# EAGLE library part RVSCHWARZENEGGER_BMS_PCB (library RVschwarzenegger2)
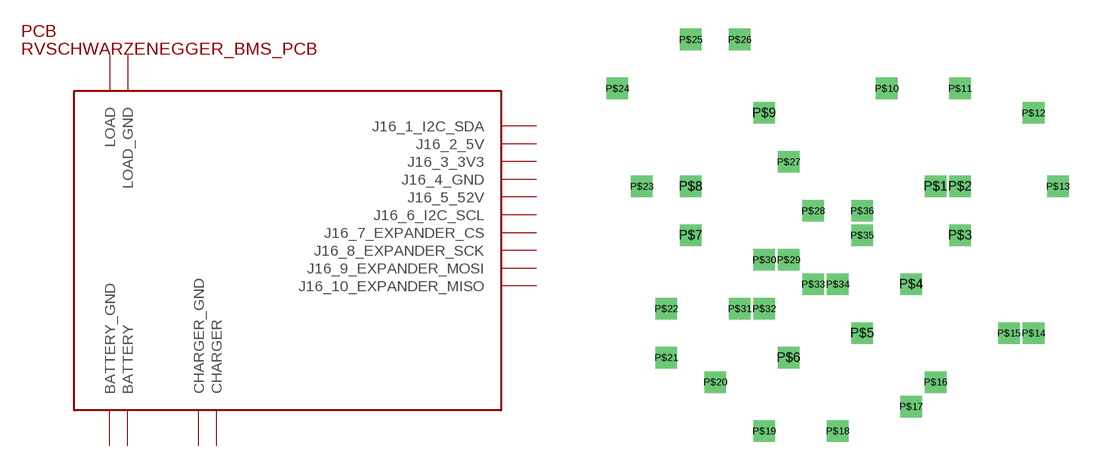
[diagram p0: symbol with the pads of BLANK; footprint BLANK]

Designator prefix PCB

## RVSCHWARZENEGGER_BMS_PCB  [BLANK]
P$1  BATTERY
P$2  BATTERY_GND
P$3  CHARGER
P$4  CHARGER_GND
P$5  J16_1_I2C_SDA
P$6  J16_2_5V
P$7  J16_3_3V3
P$8  J16_4_GND
P$9  J16_5_52V
P$10  J16_6_I2C_SCL
P$11  J16_7_EXPANDER_CS
P$12  J16_8_EXPANDER_SCK
P$13  J16_9_EXPANDER_MOSI
P$14  J16_10_EXPANDER_MISO
P$15  LOAD
P$16  LOAD_GND

## Footprint BLANK (pad centres in mm)
drill 0.6 square: P$1 0,0; P$2 1.27,0; P$3 1.27,-2.54; P$4 -1.27,-5.08; P$5 -3.81,-7.62; P$6 -7.62,-8.89; P$7 -12.7,-2.54; P$8 -12.7,0; P$9 -8.89,3.81; P$10 -2.54,5.08; P$11 1.27,5.08; P$12 5.08,3.81; P$13 6.35,0; P$14 5.08,-7.62; P$15 3.81,-7.62; P$16 0,-10.16; P$17 -1.27,-11.43; P$18 -5.08,-12.7; P$19 -8.89,-12.7; P$20 -11.43,-10.16; P$21 -13.97,-8.89; P$22 -13.97,-6.35; P$23 -15.24,0; P$24 -16.51,5.08; P$25 -12.7,7.62; P$26 -10.16,7.62; P$27 -7.62,1.27; P$28 -6.35,-1.27; P$29 -7.62,-3.81; P$30 -8.89,-3.81; P$31 -10.16,-6.35; P$32 -8.89,-6.35; P$33 -6.35,-5.08; P$34 -5.08,-5.08; P$35 -3.81,-2.54; P$36 -3.81,-1.27